# Altium schematic symbol library AP6503.SchLib: 1 symbol
Pins are listed as number, name and electrical type; pins without a type are passive.

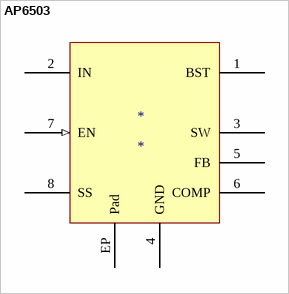
[diagram p0: symbol AP6503]

## AP6503
designator *
footprint SO-8EP
pins: 1 BST, 2 IN (power), 3 SW (power), 4 GND (power), 5 FB, 6 COMP, 7 EN (in), 8 SS, EP Pad (power)